# EAGLE library part MOLEX_SL_38 (library molex-sl-connectors_jw)
Molex SL-Series PCB Header, 38-Pos, 0.1" (2.54mm) Centers
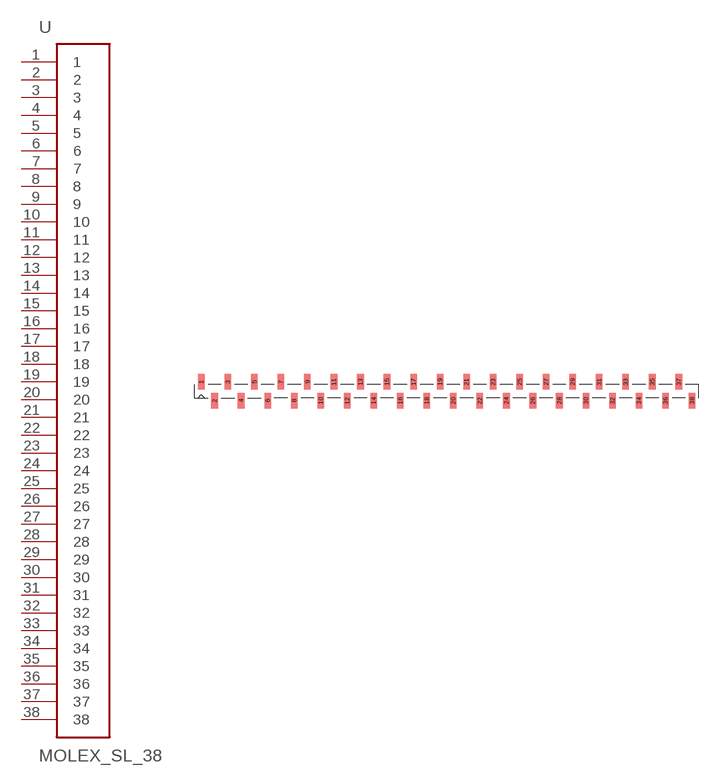
[diagram p32: symbol with the pads of SL_87898_38; footprint SL_87898_38]

Designator prefix -

## MOLEX_SL_38-87898  [SL_87898_38]
1  1
2  2
3  3
4  4
5  5
6  6
7  7
8  8
9  9
10  10
11  11
12  12
13  13
14  14
15  15
16  16
17  17
18  18
19  19
20  20
21  21
22  22
23  23
24  24
25  25
26  26
27  27
28  28
29  29
30  30
31  31
32  32
33  33
34  34
35  35
36  36
37  37
38  38

## Footprint SL_87898_38 (pad centres in mm)
SMD Vertical Header (no latch or pegs) Package also includes Pick-N-Place Cap Tube packaging w/o Pick-N-Place Cap: 87898-3821 87898-3822 87898-3824 87898-3825 87898-3826 Tube packaging w/ Pick-N-Place Cap: 87898-3831 87898-3832 87898-3834 87898-3835 87898-3836
smd 1.27 x 2.946: 1 -46.99,1.803; 2 -44.45,-1.803; 3 -41.91,1.803; 4 -39.37,-1.803; 5 -36.83,1.803; 6 -34.29,-1.803; 7 -31.75,1.803; 8 -29.21,-1.803; 9 -26.67,1.803; 10 -24.13,-1.803; 11 -21.59,1.803; 12 -19.05,-1.803; 13 -16.51,1.803; 14 -13.97,-1.803; 15 -11.43,1.803; 16 -8.89,-1.803; 17 -6.35,1.803; 18 -3.81,-1.803; 19 -1.27,1.803; 20 1.27,-1.803; 21 3.81,1.803; 22 6.35,-1.803; 23 8.89,1.803; 24 11.43,-1.803; 25 13.97,1.803; 26 16.51,-1.803; 27 19.05,1.803; 28 21.59,-1.803; 29 24.13,1.803; 30 26.67,-1.803; 31 29.21,1.803; 32 31.75,-1.803; 33 34.29,1.803; 34 36.83,-1.803; 35 39.37,1.803; 36 41.91,-1.803; 37 44.45,1.803; 38 46.99,-1.803